# Altium schematic symbol library 42Motor_Control.SchLib: 2 symbols
Pins are listed as number, name and electrical type; pins without a type are passive.

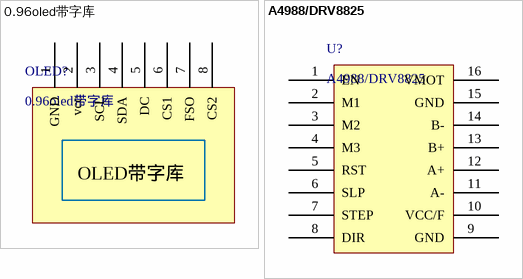
[diagram p0: symbols 0.96oled带字库 to A4988/DRV8825]

## 0.96oled带字库
designator OLED?
footprint 中景园0.96带字库
pins: 1 GND, 2 vcc, 3 SCL, 4 SDA, 5 DC, 6 CS1, 7 FSO, 8 CS2
text: OLED带字库

## A4988/DRV8825
designator U?
footprint A4988/DRV8825
pins: 1 EN, 2 M1, 3 M2, 4 M3, 5 RST, 6 SLP, 7 STEP, 8 DIR, 9 GND, 10 VCC/F, 11 A-, 12 A+, 13 B+, 14 B-, 15 GND, 16 VMOT